# Altium footprint library CON-IDC.PcbLib: 62 footprints (part 4 of 4)
Each footprint in its own frame and in the unit in brackets; x right, y up, seen from the top. Pads: shape width x height; smd on the part's side, far side on the other; paste and mask are expansions set on the pad; w line width, h text height; cw(c..) or ccw(c..) is an arc to the next point about the centre after c.
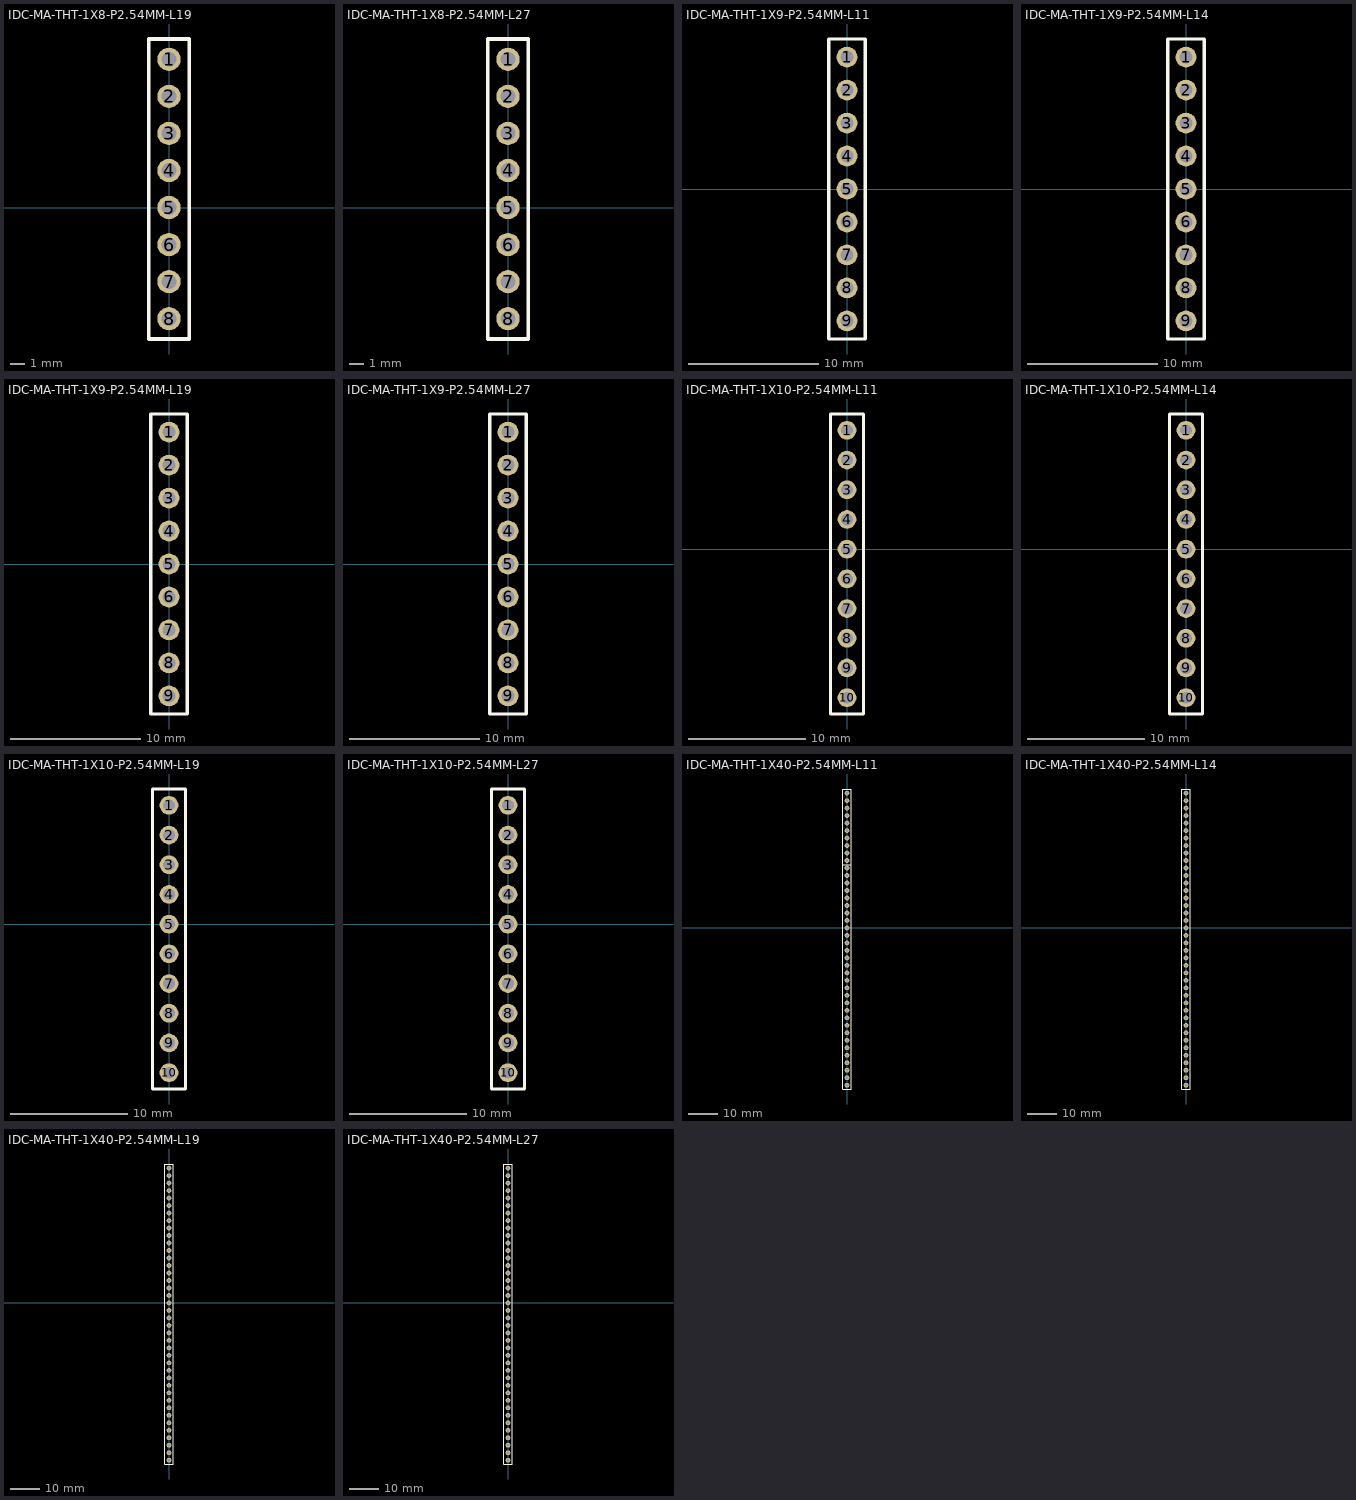
[diagram p3: the footprints below, top view; thin cyan lines are the x and y axes]

## IDC-MA-THT-1X8-P2.54MM-L19 [mm] "IDC-MA-THT-1X8-P2.54MM-L19"
pads (8):
  round 1.6 hole 1: 1(0,10.16) 2(0,7.62) 3(0,5.08) 4(0,2.54) 5(0,0) 6(0,-2.54) 7(0,-5.08) 8(0,-7.62)
Top Overlay:
  lines w0.254: -1.397,-9.017 1.397,-9.017 1.397,-0.682 1.397,11.557 -1.397,11.557 -1.397,-0.555 -1.397,-9.017
3D body "CON-PIN-L19.stp": height 16.96, standoff -2.54, extent -1.27,-8.89 1.27,-6.35
3D body "CON-PIN-L19.stp": height 16.96, standoff -2.54, extent -1.27,-6.35 1.27,-3.81
3D body "CON-PIN-L19.stp": height 16.96, standoff -2.54, extent -1.27,-3.81 1.27,-1.27
3D body "CON-PIN-L19.stp": height 16.96, standoff -2.54, extent -1.27,-1.27 1.27,1.27
3D body "CON-PIN-L19.stp": height 16.96, standoff -2.54, extent -1.27,1.27 1.27,3.81
3D body "CON-PIN-L19.stp": height 16.96, standoff -2.54, extent -1.27,3.81 1.27,6.35
3D body "CON-PIN-L19.stp": height 16.96, standoff -2.54, extent -1.27,6.35 1.27,8.89
3D body "CON-PIN-L19.stp": height 16.96, standoff -2.54, extent -1.27,8.89 1.27,11.43

## IDC-MA-THT-1X8-P2.54MM-L27 [mm] "IDC-MA-THT-1X8-P2.54MM-L27"
pads (8):
  round 1.6 hole 1: 1(0,10.16) 2(0,7.62) 3(0,5.08) 4(0,2.54) 5(0,0) 6(0,-2.54) 7(0,-5.08) 8(0,-7.62)
Top Overlay:
  lines w0.254: -1.397,-9.017 -1.397,-0.555 -1.397,11.557 1.397,11.557 1.397,-0.682 1.397,-9.017 -1.397,-9.017
3D body "CON-PIN-L27.stp": height 24.46, standoff -2.54, extent -1.27,-8.89 1.27,-6.35
3D body "CON-PIN-L27.stp": height 24.46, standoff -2.54, extent -1.27,-6.35 1.27,-3.81
3D body "CON-PIN-L27.stp": height 24.46, standoff -2.54, extent -1.27,-3.81 1.27,-1.27
3D body "CON-PIN-L27.stp": height 24.46, standoff -2.54, extent -1.27,-1.27 1.27,1.27
3D body "CON-PIN-L27.stp": height 24.46, standoff -2.54, extent -1.27,1.27 1.27,3.81
3D body "CON-PIN-L27.stp": height 24.46, standoff -2.54, extent -1.27,3.81 1.27,6.35
3D body "CON-PIN-L27.stp": height 24.46, standoff -2.54, extent -1.27,6.35 1.27,8.89
3D body "CON-PIN-L27.stp": height 24.46, standoff -2.54, extent -1.27,8.89 1.27,11.43

## IDC-MA-THT-1X9-P2.54MM-L11 [mm] "IDC-MA-THT-1X9-P2.54MM-L11"
pads (9):
  round 1.6 hole 1: 1(0,10.16) 2(0,7.62) 3(0,5.08) 4(0,2.54) 5(0,0) 6(0,-2.54) 7(0,-5.08) 8(0,-7.62) 9(0,-10.16)
Top Overlay:
  lines w0.254: -1.397,-11.557 1.397,-11.557 1.397,-0.682 1.397,11.557 -1.397,11.557 -1.397,-0.555 -1.397,-11.557
3D body "CON-PIN-CORTO.step": height 9.54, standoff -3, extent -1.25,8.91 1.25,11.41
3D body "CON-PIN-CORTO.step": height 9.54, standoff -3, extent -1.25,6.37 1.25,8.87
3D body "CON-PIN-CORTO.step": height 9.54, standoff -3, extent -1.25,3.83 1.25,6.33
3D body "CON-PIN-CORTO.step": height 9.54, standoff -3, extent -1.25,1.29 1.25,3.79
3D body "CON-PIN-CORTO.step": height 9.54, standoff -3, extent -1.25,-1.25 1.25,1.25
3D body "CON-PIN-CORTO.step": height 9.54, standoff -3, extent -1.25,-3.79 1.25,-1.29
3D body "CON-PIN-CORTO.step": height 9.54, standoff -3, extent -1.25,-6.33 1.25,-3.83
3D body "CON-PIN-CORTO.step": height 9.54, standoff -3, extent -1.25,-8.87 1.25,-6.37
3D body "CON-PIN-CORTO.step": height 9.54, standoff -3, extent -1.25,-11.41 1.25,-8.91

## IDC-MA-THT-1X9-P2.54MM-L14 [mm] "IDC-MA-THT-1X9-P2.54MM-L14"
pads (9):
  round 1.6 hole 1: 1(0,10.16) 2(0,7.62) 3(0,5.08) 4(0,2.54) 5(0,0) 6(0,-2.54) 7(0,-5.08) 8(0,-7.62) 9(0,-10.16)
Top Overlay:
  lines w0.254: -1.397,-11.557 -1.397,-0.555 -1.397,11.557 1.397,11.557 1.397,-0.682 1.397,-11.557 -1.397,-11.557
3D body "CON-PIN-L14.stp": height 11.46, standoff -2.54, extent -1.27,-11.43 1.27,-8.89
3D body "CON-PIN-L14.stp": height 11.46, standoff -2.54, extent -1.27,-8.89 1.27,-6.35
3D body "CON-PIN-L14.stp": height 11.46, standoff -2.54, extent -1.27,-6.35 1.27,-3.81
3D body "CON-PIN-L14.stp": height 11.46, standoff -2.54, extent -1.27,-3.81 1.27,-1.27
3D body "CON-PIN-L14.stp": height 11.46, standoff -2.54, extent -1.27,-1.27 1.27,1.27
3D body "CON-PIN-L14.stp": height 11.46, standoff -2.54, extent -1.27,1.27 1.27,3.81
3D body "CON-PIN-L14.stp": height 11.46, standoff -2.54, extent -1.27,3.81 1.27,6.35
3D body "CON-PIN-L14.stp": height 11.46, standoff -2.54, extent -1.27,6.35 1.27,8.89
3D body "CON-PIN-L14.stp": height 11.46, standoff -2.54, extent -1.27,8.89 1.27,11.43

## IDC-MA-THT-1X9-P2.54MM-L19 [mm] "IDC-MA-THT-1X9-P2.54MM-L19"
pads (9):
  round 1.6 hole 1: 1(0,10.16) 2(0,7.62) 3(0,5.08) 4(0,2.54) 5(0,0) 6(0,-2.54) 7(0,-5.08) 8(0,-7.62) 9(0,-10.16)
Top Overlay:
  lines w0.254: -1.397,-11.557 1.397,-11.557 1.397,-0.682 1.397,11.557 -1.397,11.557 -1.397,-0.555 -1.397,-11.557
3D body "CON-PIN-L19.stp": height 16.96, standoff -2.54, extent -1.27,-11.43 1.27,-8.89
3D body "CON-PIN-L19.stp": height 16.96, standoff -2.54, extent -1.27,-8.89 1.27,-6.35
3D body "CON-PIN-L19.stp": height 16.96, standoff -2.54, extent -1.27,-6.35 1.27,-3.81
3D body "CON-PIN-L19.stp": height 16.96, standoff -2.54, extent -1.27,-3.81 1.27,-1.27
3D body "CON-PIN-L19.stp": height 16.96, standoff -2.54, extent -1.27,-1.27 1.27,1.27
3D body "CON-PIN-L19.stp": height 16.96, standoff -2.54, extent -1.27,1.27 1.27,3.81
3D body "CON-PIN-L19.stp": height 16.96, standoff -2.54, extent -1.27,3.81 1.27,6.35
3D body "CON-PIN-L19.stp": height 16.96, standoff -2.54, extent -1.27,6.35 1.27,8.89
3D body "CON-PIN-L19.stp": height 16.96, standoff -2.54, extent -1.27,8.89 1.27,11.43

## IDC-MA-THT-1X9-P2.54MM-L27 [mm] "IDC-MA-THT-1X9-P2.54MM-L27"
pads (9):
  round 1.6 hole 1: 1(0,10.16) 2(0,7.62) 3(0,5.08) 4(0,2.54) 5(0,0) 6(0,-2.54) 7(0,-5.08) 8(0,-7.62) 9(0,-10.16)
Top Overlay:
  lines w0.254: -1.397,-11.557 -1.397,-0.555 -1.397,11.557 1.397,11.557 1.397,-0.682 1.397,-11.557 -1.397,-11.557
3D body "CON-PIN-L27.stp": height 24.46, standoff -2.54, extent -1.27,8.89 1.27,11.43
3D body "CON-PIN-L27.stp": height 24.46, standoff -2.54, extent -1.27,6.35 1.27,8.89
3D body "CON-PIN-L27.stp": height 24.46, standoff -2.54, extent -1.27,3.81 1.27,6.35
3D body "CON-PIN-L27.stp": height 24.46, standoff -2.54, extent -1.27,1.27 1.27,3.81
3D body "CON-PIN-L27.stp": height 24.46, standoff -2.54, extent -1.27,-1.27 1.27,1.27
3D body "CON-PIN-L27.stp": height 24.46, standoff -2.54, extent -1.27,-3.81 1.27,-1.27
3D body "CON-PIN-L27.stp": height 24.46, standoff -2.54, extent -1.27,-6.35 1.27,-3.81
3D body "CON-PIN-L27.stp": height 24.46, standoff -2.54, extent -1.27,-8.89 1.27,-6.35
3D body "CON-PIN-L27.stp": height 24.46, standoff -2.54, extent -1.27,-11.43 1.27,-8.89

## IDC-MA-THT-1X10-P2.54MM-L11 [mm] "IDC-MA-THT-1X10-P2.54MM-L11"
pads (10):
  round 1.6 hole 1: 1(0,10.16) 2(0,7.62) 3(0,5.08) 4(0,2.54) 5(0,0) 6(0,-2.54) 7(0,-5.08) 8(0,-7.62) 9(0,-10.16) 10(0,-12.7)
Top Overlay:
  lines w0.254: -1.397,-14.097 -1.397,-0.555 -1.397,11.557 1.397,11.557 1.397,-0.682 1.397,-14.097 -1.397,-14.097
3D body "CON-PIN-CORTO.step": height 9.54, standoff -3, extent -1.25,-13.95 1.25,-11.45
3D body "CON-PIN-CORTO.step": height 9.54, standoff -3, extent -1.25,-11.41 1.25,-8.91
3D body "CON-PIN-CORTO.step": height 9.54, standoff -3, extent -1.25,-8.87 1.25,-6.37
3D body "CON-PIN-CORTO.step": height 9.54, standoff -3, extent -1.25,-6.33 1.25,-3.83
3D body "CON-PIN-CORTO.step": height 9.54, standoff -3, extent -1.25,-3.79 1.25,-1.29
3D body "CON-PIN-CORTO.step": height 9.54, standoff -3, extent -1.25,-1.25 1.25,1.25
3D body "CON-PIN-CORTO.step": height 9.54, standoff -3, extent -1.25,1.29 1.25,3.79
3D body "CON-PIN-CORTO.step": height 9.54, standoff -3, extent -1.25,3.83 1.25,6.33
3D body "CON-PIN-CORTO.step": height 9.54, standoff -3, extent -1.25,6.37 1.25,8.87
3D body "CON-PIN-CORTO.step": height 9.54, standoff -3, extent -1.25,8.91 1.25,11.41

## IDC-MA-THT-1X10-P2.54MM-L14 [mm] "IDC-MA-THT-1X10-P2.54MM-L14"
pads (10):
  round 1.6 hole 1: 1(0,10.16) 2(0,7.62) 3(0,5.08) 4(0,2.54) 5(0,0) 6(0,-2.54) 7(0,-5.08) 8(0,-7.62) 9(0,-10.16) 10(0,-12.7)
Top Overlay:
  lines w0.254: -1.397,-14.097 1.397,-14.097 1.397,-0.682 1.397,11.557 -1.397,11.557 -1.397,-0.555 -1.397,-14.097
3D body "CON-PIN-L14.stp": height 11.46, standoff -2.54, extent -1.27,-13.97 1.27,-11.43
3D body "CON-PIN-L14.stp": height 11.46, standoff -2.54, extent -1.27,-11.43 1.27,-8.89
3D body "CON-PIN-L14.stp": height 11.46, standoff -2.54, extent -1.27,-8.89 1.27,-6.35
3D body "CON-PIN-L14.stp": height 11.46, standoff -2.54, extent -1.27,-6.35 1.27,-3.81
3D body "CON-PIN-L14.stp": height 11.46, standoff -2.54, extent -1.27,-3.81 1.27,-1.27
3D body "CON-PIN-L14.stp": height 11.46, standoff -2.54, extent -1.27,-1.27 1.27,1.27
3D body "CON-PIN-L14.stp": height 11.46, standoff -2.54, extent -1.27,1.27 1.27,3.81
3D body "CON-PIN-L14.stp": height 11.46, standoff -2.54, extent -1.27,3.81 1.27,6.35
3D body "CON-PIN-L14.stp": height 11.46, standoff -2.54, extent -1.27,6.35 1.27,8.89
3D body "CON-PIN-L14.stp": height 11.46, standoff -2.54, extent -1.27,8.89 1.27,11.43

## IDC-MA-THT-1X10-P2.54MM-L19 [mm] "IDC-MA-THT-1X10-P2.54MM-L19"
pads (10):
  round 1.6 hole 1: 1(0,10.16) 2(0,7.62) 3(0,5.08) 4(0,2.54) 5(0,0) 6(0,-2.54) 7(0,-5.08) 8(0,-7.62) 9(0,-10.16) 10(0,-12.7)
Top Overlay:
  lines w0.254: -1.397,-14.097 -1.397,-0.555 -1.397,11.557 1.397,11.557 1.397,-0.682 1.397,-14.097 -1.397,-14.097
3D body "CON-PIN-L19.stp": height 16.96, standoff -2.54, extent -1.27,-13.97 1.27,-11.43
3D body "CON-PIN-L19.stp": height 16.96, standoff -2.54, extent -1.27,-11.43 1.27,-8.89
3D body "CON-PIN-L19.stp": height 16.96, standoff -2.54, extent -1.27,-8.89 1.27,-6.35
3D body "CON-PIN-L19.stp": height 16.96, standoff -2.54, extent -1.27,-6.35 1.27,-3.81
3D body "CON-PIN-L19.stp": height 16.96, standoff -2.54, extent -1.27,-3.81 1.27,-1.27
3D body "CON-PIN-L19.stp": height 16.96, standoff -2.54, extent -1.27,-1.27 1.27,1.27
3D body "CON-PIN-L19.stp": height 16.96, standoff -2.54, extent -1.27,1.27 1.27,3.81
3D body "CON-PIN-L19.stp": height 16.96, standoff -2.54, extent -1.27,3.81 1.27,6.35
3D body "CON-PIN-L19.stp": height 16.96, standoff -2.54, extent -1.27,6.35 1.27,8.89
3D body "CON-PIN-L19.stp": height 16.96, standoff -2.54, extent -1.27,8.89 1.27,11.43

## IDC-MA-THT-1X10-P2.54MM-L27 [mm] "IDC-MA-THT-1X10-P2.54MM-L27"
pads (10):
  round 1.6 hole 1: 1(0,10.16) 2(0,7.62) 3(0,5.08) 4(0,2.54) 5(0,0) 6(0,-2.54) 7(0,-5.08) 8(0,-7.62) 9(0,-10.16) 10(0,-12.7)
Top Overlay:
  lines w0.254: -1.397,-14.097 -1.397,-0.555 -1.397,11.557 1.397,11.557 1.397,-0.682 1.397,-14.097 -1.397,-14.097
3D body "CON-PIN-L27.stp": height 24.46, standoff -2.54, extent -1.27,-13.97 1.27,-11.43
3D body "CON-PIN-L27.stp": height 24.46, standoff -2.54, extent -1.27,-11.43 1.27,-8.89
3D body "CON-PIN-L27.stp": height 24.46, standoff -2.54, extent -1.27,-8.89 1.27,-6.35
3D body "CON-PIN-L27.stp": height 24.46, standoff -2.54, extent -1.27,-6.35 1.27,-3.81
3D body "CON-PIN-L27.stp": height 24.46, standoff -2.54, extent -1.27,-3.81 1.27,-1.27
3D body "CON-PIN-L27.stp": height 24.46, standoff -2.54, extent -1.27,-1.27 1.27,1.27
3D body "CON-PIN-L27.stp": height 24.46, standoff -2.54, extent -1.27,1.27 1.27,3.81
3D body "CON-PIN-L27.stp": height 24.46, standoff -2.54, extent -1.27,3.81 1.27,6.35
3D body "CON-PIN-L27.stp": height 24.46, standoff -2.54, extent -1.27,6.35 1.27,8.89
3D body "CON-PIN-L27.stp": height 24.46, standoff -2.54, extent -1.27,8.89 1.27,11.43

## IDC-MA-THT-1X40-P2.54MM-L11 [mm] "IDC-MA-THT-1X40-P2.54MM-L11"
pads (40):
  round 1.6 hole 1: 1(0,45.72) 2(0,43.18) 3(0,40.64) 4(0,38.1) 5(0,35.56) 6(0,33.02) 7(0,30.48) 8(0,27.94) 9(0,25.4) 10(0,22.86) 11(0,20.32) 12(0,17.78) 13(0,15.24) 14(0,12.7) 15(0,10.16) 16(0,7.62) 17(0,5.08) 18(0,2.54) 19(0,0) 20(0,-2.54) 21(0,-5.08) 22(0,-7.62) 23(0,-10.16) 24(0,-12.7) 25(0,-15.24) 26(0,-17.78) 27(0,-20.32) 28(0,-22.86) 29(0,-25.4) 30(0,-27.94) 31(0,-30.48) 32(0,-33.02) 33(0,-35.56) 34(0,-38.1) 35(0,-40.64) 36(0,-43.18) 37(0,-45.72) 38(0,-48.26) 39(0,-50.8) 40(0,-53.34)
Top Overlay:
  lines w0: -1.397,21.463 1.397,21.463
  lines w0.254: -1.397,-47.117 -1.397,-33.575 -1.397,-21.463 ; -1.397,-44.323 -1.397,-54.61 1.397,-54.61 1.397,-44.323 ; -1.397,-24.257 -1.397,-10.715 -1.397,1.397 ; -1.397,-1.397 -1.397,10.842 -1.397,24.257 ; -1.397,21.463 -1.397,33.702 -1.397,47.117 ; 1.397,-47.117 1.397,-33.702 1.397,-21.463 ; 1.397,-24.257 1.397,-10.842 1.397,1.397 ; 1.397,-1.397 1.397,10.715 1.397,24.257 ; 1.397,21.463 1.397,33.575 1.397,47.117 ; -1.397,47.117 1.397,47.117 ; -1.397,47.117 1.397,47.117
3D body "CON-PIN-CORTO.step": height 9.54, standoff -3, extent -1.25,-24.11 1.25,-21.61
3D body "CON-PIN-CORTO.step": height 9.54, standoff -3, extent -1.25,-21.57 1.25,-19.07
3D body "CON-PIN-CORTO.step": height 9.54, standoff -3, extent -1.25,-19.03 1.25,-16.53
3D body "CON-PIN-CORTO.step": height 9.54, standoff -3, extent -1.25,-16.49 1.25,-13.99
3D body "CON-PIN-CORTO.step": height 9.54, standoff -3, extent -1.25,-13.95 1.25,-11.45
3D body "CON-PIN-CORTO.step": height 9.54, standoff -3, extent -1.25,-11.41 1.25,-8.91
3D body "CON-PIN-CORTO.step": height 9.54, standoff -3, extent -1.25,-8.87 1.25,-6.37
3D body "CON-PIN-CORTO.step": height 9.54, standoff -3, extent -1.25,-6.33 1.25,-3.83
3D body "CON-PIN-CORTO.step": height 9.54, standoff -3, extent -1.25,-3.79 1.25,-1.29
3D body "CON-PIN-CORTO.step": height 9.54, standoff -3, extent -1.25,-1.25 1.25,1.25
3D body "CON-PIN-CORTO.step": height 9.54, standoff -3, extent -1.25,1.29 1.25,3.79
3D body "CON-PIN-CORTO.step": height 9.54, standoff -3, extent -1.25,3.83 1.25,6.33
3D body "CON-PIN-CORTO.step": height 9.54, standoff -3, extent -1.25,6.37 1.25,8.87
3D body "CON-PIN-CORTO.step": height 9.54, standoff -3, extent -1.25,8.91 1.25,11.41
3D body "CON-PIN-CORTO.step": height 9.54, standoff -3, extent -1.25,11.45 1.25,13.95
3D body "CON-PIN-CORTO.step": height 9.54, standoff -3, extent -1.25,13.99 1.25,16.49
3D body "CON-PIN-CORTO.step": height 9.54, standoff -3, extent -1.25,16.53 1.25,19.03
3D body "CON-PIN-CORTO.step": height 9.54, standoff -3, extent -1.25,19.07 1.25,21.57
3D body "CON-PIN-CORTO.step": height 9.54, standoff -3, extent -1.25,21.61 1.25,24.11
3D body "CON-PIN-CORTO.step": height 9.54, standoff -3, extent -1.25,24.15 1.25,26.65
3D body "CON-PIN-CORTO.step": height 9.54, standoff -3, extent -1.25,26.69 1.25,29.19
3D body "CON-PIN-CORTO.step": height 9.54, standoff -3, extent -1.25,29.23 1.25,31.73
3D body "CON-PIN-CORTO.step": height 9.54, standoff -3, extent -1.25,31.77 1.25,34.27
3D body "CON-PIN-CORTO.step": height 9.54, standoff -3, extent -1.25,34.31 1.25,36.81
3D body "CON-PIN-CORTO.step": height 9.54, standoff -3, extent -1.25,36.85 1.25,39.35
3D body "CON-PIN-CORTO.step": height 9.54, standoff -3, extent -1.25,39.39 1.25,41.89
3D body "CON-PIN-CORTO.step": height 9.54, standoff -3, extent -1.25,41.93 1.25,44.43
3D body "CON-PIN-CORTO.step": height 9.54, standoff -3, extent -1.25,44.47 1.25,46.97
3D body "CON-PIN-CORTO.step": height 9.54, standoff -3, extent -1.25,-26.65 1.25,-24.15
3D body "CON-PIN-CORTO.step": height 9.54, standoff -3, extent -1.25,-29.19 1.25,-26.69
3D body "CON-PIN-CORTO.step": height 9.54, standoff -3, extent -1.25,-31.73 1.25,-29.23
3D body "CON-PIN-CORTO.step": height 9.54, standoff -3, extent -1.25,-34.27 1.25,-31.77
3D body "CON-PIN-CORTO.step": height 9.54, standoff -3, extent -1.25,-36.81 1.25,-34.31
3D body "CON-PIN-CORTO.step": height 9.54, standoff -3, extent -1.25,-39.35 1.25,-36.85
3D body "CON-PIN-CORTO.step": height 9.54, standoff -3, extent -1.25,-41.89 1.25,-39.39
3D body "CON-PIN-CORTO.step": height 9.54, standoff -3, extent -1.25,-44.43 1.25,-41.93
3D body "CON-PIN-CORTO.step": height 9.54, standoff -3, extent -1.25,-46.97 1.25,-44.47
3D body "CON-PIN-CORTO.step": height 9.54, standoff -3, extent -1.25,-49.51 1.25,-47.01
3D body "CON-PIN-CORTO.step": height 9.54, standoff -3, extent -1.25,-52.05 1.25,-49.55
3D body "CON-PIN-CORTO.step": height 9.54, standoff -3, extent -1.25,-54.59 1.25,-52.09

## IDC-MA-THT-1X40-P2.54MM-L14 [mm] "IDC-MA-THT-1X40-P2.54MM-L14"
pads (40):
  round 1.6 hole 1: 1(0,45.72) 2(0,43.18) 3(0,40.64) 4(0,38.1) 5(0,35.56) 6(0,33.02) 7(0,30.48) 8(0,27.94) 9(0,25.4) 10(0,22.86) 11(0,20.32) 12(0,17.78) 13(0,15.24) 14(0,12.7) 15(0,10.16) 16(0,7.62) 17(0,5.08) 18(0,2.54) 19(0,0) 20(0,-2.54) 21(0,-5.08) 22(0,-7.62) 23(0,-10.16) 24(0,-12.7) 25(0,-15.24) 26(0,-17.78) 27(0,-20.32) 28(0,-22.86) 29(0,-25.4) 30(0,-27.94) 31(0,-30.48) 32(0,-33.02) 33(0,-35.56) 34(0,-38.1) 35(0,-40.64) 36(0,-43.18) 37(0,-45.72) 38(0,-48.26) 39(0,-50.8) 40(0,-53.34)
Top Overlay:
  lines w0.254: -1.397,-47.117 -1.397,-33.575 -1.397,-21.463 ; -1.397,-44.323 -1.397,-54.61 1.397,-54.61 1.397,-44.323 ; -1.397,-24.257 -1.397,-10.715 -1.397,1.397 ; -1.397,-1.397 -1.397,10.842 -1.397,24.257 ; -1.397,21.463 -1.397,33.702 -1.397,47.117 ; 1.397,-47.117 1.397,-33.702 1.397,-21.463 ; 1.397,-24.257 1.397,-10.842 1.397,1.397 ; 1.397,-1.397 1.397,10.715 1.397,24.257 ; 1.397,21.463 1.397,33.575 1.397,47.117 ; -1.397,47.117 1.397,47.117 ; -1.397,47.117 1.397,47.117
3D body "CON-PIN-L14.stp": height 11.46, standoff -2.54, extent -1.27,-54.61 1.27,-52.07
3D body "CON-PIN-L14.stp": height 11.46, standoff -2.54, extent -1.27,-52.07 1.27,-49.53
3D body "CON-PIN-L14.stp": height 11.46, standoff -2.54, extent -1.27,-49.53 1.27,-46.99
3D body "CON-PIN-L14.stp": height 11.46, standoff -2.54, extent -1.27,-46.99 1.27,-44.45
3D body "CON-PIN-L14.stp": height 11.46, standoff -2.54, extent -1.27,-44.45 1.27,-41.91
3D body "CON-PIN-L14.stp": height 11.46, standoff -2.54, extent -1.27,-41.91 1.27,-39.37
3D body "CON-PIN-L14.stp": height 11.46, standoff -2.54, extent -1.27,-39.37 1.27,-36.83
3D body "CON-PIN-L14.stp": height 11.46, standoff -2.54, extent -1.27,-36.83 1.27,-34.29
3D body "CON-PIN-L14.stp": height 11.46, standoff -2.54, extent -1.27,-34.29 1.27,-31.75
3D body "CON-PIN-L14.stp": height 11.46, standoff -2.54, extent -1.27,-31.75 1.27,-29.21
3D body "CON-PIN-L14.stp": height 11.46, standoff -2.54, extent -1.27,-29.21 1.27,-26.67
3D body "CON-PIN-L14.stp": height 11.46, standoff -2.54, extent -1.27,-26.67 1.27,-24.13
3D body "CON-PIN-L14.stp": height 11.46, standoff -2.54, extent -1.27,-24.13 1.27,-21.59
3D body "CON-PIN-L14.stp": height 11.46, standoff -2.54, extent -1.27,-21.59 1.27,-19.05
3D body "CON-PIN-L14.stp": height 11.46, standoff -2.54, extent -1.27,-19.05 1.27,-16.51
3D body "CON-PIN-L14.stp": height 11.46, standoff -2.54, extent -1.27,-16.51 1.27,-13.97
3D body "CON-PIN-L14.stp": height 11.46, standoff -2.54, extent -1.27,-13.97 1.27,-11.43
3D body "CON-PIN-L14.stp": height 11.46, standoff -2.54, extent -1.27,-11.43 1.27,-8.89
3D body "CON-PIN-L14.stp": height 11.46, standoff -2.54, extent -1.27,-8.89 1.27,-6.35
3D body "CON-PIN-L14.stp": height 11.46, standoff -2.54, extent -1.27,-6.35 1.27,-3.81
3D body "CON-PIN-L14.stp": height 11.46, standoff -2.54, extent -1.27,-3.81 1.27,-1.27
3D body "CON-PIN-L14.stp": height 11.46, standoff -2.54, extent -1.27,-1.27 1.27,1.27
3D body "CON-PIN-L14.stp": height 11.46, standoff -2.54, extent -1.27,1.27 1.27,3.81
3D body "CON-PIN-L14.stp": height 11.46, standoff -2.54, extent -1.27,3.81 1.27,6.35
3D body "CON-PIN-L14.stp": height 11.46, standoff -2.54, extent -1.27,6.35 1.27,8.89
3D body "CON-PIN-L14.stp": height 11.46, standoff -2.54, extent -1.27,8.89 1.27,11.43
3D body "CON-PIN-L14.stp": height 11.46, standoff -2.54, extent -1.27,11.43 1.27,13.97
3D body "CON-PIN-L14.stp": height 11.46, standoff -2.54, extent -1.27,13.97 1.27,16.51
3D body "CON-PIN-L14.stp": height 11.46, standoff -2.54, extent -1.27,16.51 1.27,19.05
3D body "CON-PIN-L14.stp": height 11.46, standoff -2.54, extent -1.27,19.05 1.27,21.59
3D body "CON-PIN-L14.stp": height 11.46, standoff -2.54, extent -1.27,21.59 1.27,24.13
3D body "CON-PIN-L14.stp": height 11.46, standoff -2.54, extent -1.27,24.13 1.27,26.67
3D body "CON-PIN-L14.stp": height 11.46, standoff -2.54, extent -1.27,26.67 1.27,29.21
3D body "CON-PIN-L14.stp": height 11.46, standoff -2.54, extent -1.27,29.21 1.27,31.75
3D body "CON-PIN-L14.stp": height 11.46, standoff -2.54, extent -1.27,31.75 1.27,34.29
3D body "CON-PIN-L14.stp": height 11.46, standoff -2.54, extent -1.27,34.29 1.27,36.83
3D body "CON-PIN-L14.stp": height 11.46, standoff -2.54, extent -1.27,36.83 1.27,39.37
3D body "CON-PIN-L14.stp": height 11.46, standoff -2.54, extent -1.27,39.37 1.27,41.91
3D body "CON-PIN-L14.stp": height 11.46, standoff -2.54, extent -1.27,41.91 1.27,44.45
3D body "CON-PIN-L14.stp": height 11.46, standoff -2.54, extent -1.27,44.45 1.27,46.99

## IDC-MA-THT-1X40-P2.54MM-L19 [mm] "IDC-MA-THT-1X40-P2.54MM-L19"
pads (40):
  round 1.6 hole 1: 1(0,45.72) 2(0,43.18) 3(0,40.64) 4(0,38.1) 5(0,35.56) 6(0,33.02) 7(0,30.48) 8(0,27.94) 9(0,25.4) 10(0,22.86) 11(0,20.32) 12(0,17.78) 13(0,15.24) 14(0,12.7) 15(0,10.16) 16(0,7.62) 17(0,5.08) 18(0,2.54) 19(0,0) 20(0,-2.54) 21(0,-5.08) 22(0,-7.62) 23(0,-10.16) 24(0,-12.7) 25(0,-15.24) 26(0,-17.78) 27(0,-20.32) 28(0,-22.86) 29(0,-25.4) 30(0,-27.94) 31(0,-30.48) 32(0,-33.02) 33(0,-35.56) 34(0,-38.1) 35(0,-40.64) 36(0,-43.18) 37(0,-45.72) 38(0,-48.26) 39(0,-50.8) 40(0,-53.34)
Top Overlay:
  lines w0.254: -1.397,-47.117 -1.397,-33.575 -1.397,-21.463 ; -1.397,-44.323 -1.397,-54.61 1.397,-54.61 1.397,-44.323 ; -1.397,-24.257 -1.397,-10.715 -1.397,1.397 ; -1.397,-1.397 -1.397,10.842 -1.397,24.257 ; -1.397,21.463 -1.397,33.702 -1.397,47.117 ; 1.397,-47.117 1.397,-33.702 1.397,-21.463 ; 1.397,-24.257 1.397,-10.842 1.397,1.397 ; 1.397,-1.397 1.397,10.715 1.397,24.257 ; 1.397,21.463 1.397,33.575 1.397,47.117 ; -1.397,47.117 1.397,47.117 ; -1.397,47.117 1.397,47.117
3D body "CON-PIN-L19.stp": height 16.96, standoff -2.54, extent -1.27,-54.61 1.27,-52.07
3D body "CON-PIN-L19.stp": height 16.96, standoff -2.54, extent -1.27,-52.07 1.27,-49.53
3D body "CON-PIN-L19.stp": height 16.96, standoff -2.54, extent -1.27,-49.53 1.27,-46.99
3D body "CON-PIN-L19.stp": height 16.96, standoff -2.54, extent -1.27,-46.99 1.27,-44.45
3D body "CON-PIN-L19.stp": height 16.96, standoff -2.54, extent -1.27,-44.45 1.27,-41.91
3D body "CON-PIN-L19.stp": height 16.96, standoff -2.54, extent -1.27,-41.91 1.27,-39.37
3D body "CON-PIN-L19.stp": height 16.96, standoff -2.54, extent -1.27,-39.37 1.27,-36.83
3D body "CON-PIN-L19.stp": height 16.96, standoff -2.54, extent -1.27,-36.83 1.27,-34.29
3D body "CON-PIN-L19.stp": height 16.96, standoff -2.54, extent -1.27,-34.29 1.27,-31.75
3D body "CON-PIN-L19.stp": height 16.96, standoff -2.54, extent -1.27,-31.75 1.27,-29.21
3D body "CON-PIN-L19.stp": height 16.96, standoff -2.54, extent -1.27,-29.21 1.27,-26.67
3D body "CON-PIN-L19.stp": height 16.96, standoff -2.54, extent -1.27,-26.67 1.27,-24.13
3D body "CON-PIN-L19.stp": height 16.96, standoff -2.54, extent -1.27,-24.13 1.27,-21.59
3D body "CON-PIN-L19.stp": height 16.96, standoff -2.54, extent -1.27,-21.59 1.27,-19.05
3D body "CON-PIN-L19.stp": height 16.96, standoff -2.54, extent -1.27,-19.05 1.27,-16.51
3D body "CON-PIN-L19.stp": height 16.96, standoff -2.54, extent -1.27,-16.51 1.27,-13.97
3D body "CON-PIN-L19.stp": height 16.96, standoff -2.54, extent -1.27,-13.97 1.27,-11.43
3D body "CON-PIN-L19.stp": height 16.96, standoff -2.54, extent -1.27,-11.43 1.27,-8.89
3D body "CON-PIN-L19.stp": height 16.96, standoff -2.54, extent -1.27,-8.89 1.27,-6.35
3D body "CON-PIN-L19.stp": height 16.96, standoff -2.54, extent -1.27,-6.35 1.27,-3.81
3D body "CON-PIN-L19.stp": height 16.96, standoff -2.54, extent -1.27,-3.81 1.27,-1.27
3D body "CON-PIN-L19.stp": height 16.96, standoff -2.54, extent -1.27,-1.27 1.27,1.27
3D body "CON-PIN-L19.stp": height 16.96, standoff -2.54, extent -1.27,1.27 1.27,3.81
3D body "CON-PIN-L19.stp": height 16.96, standoff -2.54, extent -1.27,3.81 1.27,6.35
3D body "CON-PIN-L19.stp": height 16.96, standoff -2.54, extent -1.27,6.35 1.27,8.89
3D body "CON-PIN-L19.stp": height 16.96, standoff -2.54, extent -1.27,8.89 1.27,11.43
3D body "CON-PIN-L19.stp": height 16.96, standoff -2.54, extent -1.27,11.43 1.27,13.97
3D body "CON-PIN-L19.stp": height 16.96, standoff -2.54, extent -1.27,13.97 1.27,16.51
3D body "CON-PIN-L19.stp": height 16.96, standoff -2.54, extent -1.27,16.51 1.27,19.05
3D body "CON-PIN-L19.stp": height 16.96, standoff -2.54, extent -1.27,19.05 1.27,21.59
3D body "CON-PIN-L19.stp": height 16.96, standoff -2.54, extent -1.27,21.59 1.27,24.13
3D body "CON-PIN-L19.stp": height 16.96, standoff -2.54, extent -1.27,24.13 1.27,26.67
3D body "CON-PIN-L19.stp": height 16.96, standoff -2.54, extent -1.27,26.67 1.27,29.21
3D body "CON-PIN-L19.stp": height 16.96, standoff -2.54, extent -1.27,29.21 1.27,31.75
3D body "CON-PIN-L19.stp": height 16.96, standoff -2.54, extent -1.27,31.75 1.27,34.29
3D body "CON-PIN-L19.stp": height 16.96, standoff -2.54, extent -1.27,34.29 1.27,36.83
3D body "CON-PIN-L19.stp": height 16.96, standoff -2.54, extent -1.27,36.83 1.27,39.37
3D body "CON-PIN-L19.stp": height 16.96, standoff -2.54, extent -1.27,39.37 1.27,41.91
3D body "CON-PIN-L19.stp": height 16.96, standoff -2.54, extent -1.27,41.91 1.27,44.45
3D body "CON-PIN-L19.stp": height 16.96, standoff -2.54, extent -1.27,44.45 1.27,46.99

## IDC-MA-THT-1X40-P2.54MM-L27 [mm] "IDC-MA-THT-1X40-P2.54MM-L27"
pads (40):
  round 1.6 hole 1: 1(0,45.72) 2(0,43.18) 3(0,40.64) 4(0,38.1) 5(0,35.56) 6(0,33.02) 7(0,30.48) 8(0,27.94) 9(0,25.4) 10(0,22.86) 11(0,20.32) 12(0,17.78) 13(0,15.24) 14(0,12.7) 15(0,10.16) 16(0,7.62) 17(0,5.08) 18(0,2.54) 19(0,0) 20(0,-2.54) 21(0,-5.08) 22(0,-7.62) 23(0,-10.16) 24(0,-12.7) 25(0,-15.24) 26(0,-17.78) 27(0,-20.32) 28(0,-22.86) 29(0,-25.4) 30(0,-27.94) 31(0,-30.48) 32(0,-33.02) 33(0,-35.56) 34(0,-38.1) 35(0,-40.64) 36(0,-43.18) 37(0,-45.72) 38(0,-48.26) 39(0,-50.8) 40(0,-53.34)
Top Overlay:
  lines w0.254: -1.397,-47.117 -1.397,-33.575 -1.397,-21.463 ; -1.397,-44.323 -1.397,-54.61 1.397,-54.61 1.397,-44.323 ; -1.397,-24.257 -1.397,-10.715 -1.397,1.397 ; -1.397,-1.397 -1.397,10.842 -1.397,24.257 ; -1.397,21.463 -1.397,33.702 -1.397,47.117 ; 1.397,-47.117 1.397,-33.702 1.397,-21.463 ; 1.397,-24.257 1.397,-10.842 1.397,1.397 ; 1.397,-1.397 1.397,10.715 1.397,24.257 ; 1.397,21.463 1.397,33.575 1.397,47.117 ; -1.397,47.117 1.397,47.117 ; -1.397,47.117 1.397,47.117
3D body "CON-PIN-L27.stp": height 24.46, standoff -2.54, extent -1.27,41.91 1.27,44.45
3D body "CON-PIN-L27.stp": height 24.46, standoff -2.54, extent -1.27,44.45 1.27,46.99
3D body "CON-PIN-L27.stp": height 24.46, standoff -2.54, extent -1.27,39.37 1.27,41.91
3D body "CON-PIN-L27.stp": height 24.46, standoff -2.54, extent -1.27,36.83 1.27,39.37
3D body "CON-PIN-L27.stp": height 24.46, standoff -2.54, extent -1.27,34.29 1.27,36.83
3D body "CON-PIN-L27.stp": height 24.46, standoff -2.54, extent -1.27,31.75 1.27,34.29
3D body "CON-PIN-L27.stp": height 24.46, standoff -2.54, extent -1.27,29.21 1.27,31.75
3D body "CON-PIN-L27.stp": height 24.46, standoff -2.54, extent -1.27,26.67 1.27,29.21
3D body "CON-PIN-L27.stp": height 24.46, standoff -2.54, extent -1.27,24.13 1.27,26.67
3D body "CON-PIN-L27.stp": height 24.46, standoff -2.54, extent -1.27,21.59 1.27,24.13
3D body "CON-PIN-L27.stp": height 24.46, standoff -2.54, extent -1.27,19.05 1.27,21.59
3D body "CON-PIN-L27.stp": height 24.46, standoff -2.54, extent -1.27,16.51 1.27,19.05
3D body "CON-PIN-L27.stp": height 24.46, standoff -2.54, extent -1.27,13.97 1.27,16.51
3D body "CON-PIN-L27.stp": height 24.46, standoff -2.54, extent -1.27,11.43 1.27,13.97
3D body "CON-PIN-L27.stp": height 24.46, standoff -2.54, extent -1.27,8.89 1.27,11.43
3D body "CON-PIN-L27.stp": height 24.46, standoff -2.54, extent -1.27,6.35 1.27,8.89
3D body "CON-PIN-L27.stp": height 24.46, standoff -2.54, extent -1.27,3.81 1.27,6.35
3D body "CON-PIN-L27.stp": height 24.46, standoff -2.54, extent -1.27,1.27 1.27,3.81
3D body "CON-PIN-L27.stp": height 24.46, standoff -2.54, extent -1.27,-1.27 1.27,1.27
3D body "CON-PIN-L27.stp": height 24.46, standoff -2.54, extent -1.27,-3.81 1.27,-1.27
3D body "CON-PIN-L27.stp": height 24.46, standoff -2.54, extent -1.27,-6.35 1.27,-3.81
3D body "CON-PIN-L27.stp": height 24.46, standoff -2.54, extent -1.27,-8.89 1.27,-6.35
3D body "CON-PIN-L27.stp": height 24.46, standoff -2.54, extent -1.27,-11.43 1.27,-8.89
3D body "CON-PIN-L27.stp": height 24.46, standoff -2.54, extent -1.27,-13.97 1.27,-11.43
3D body "CON-PIN-L27.stp": height 24.46, standoff -2.54, extent -1.27,-16.51 1.27,-13.97
3D body "CON-PIN-L27.stp": height 24.46, standoff -2.54, extent -1.27,-19.05 1.27,-16.51
3D body "CON-PIN-L27.stp": height 24.46, standoff -2.54, extent -1.27,-21.59 1.27,-19.05
3D body "CON-PIN-L27.stp": height 24.46, standoff -2.54, extent -1.27,-24.13 1.27,-21.59
3D body "CON-PIN-L27.stp": height 24.46, standoff -2.54, extent -1.27,-26.67 1.27,-24.13
3D body "CON-PIN-L27.stp": height 24.46, standoff -2.54, extent -1.27,-29.21 1.27,-26.67
3D body "CON-PIN-L27.stp": height 24.46, standoff -2.54, extent -1.27,-31.75 1.27,-29.21
3D body "CON-PIN-L27.stp": height 24.46, standoff -2.54, extent -1.27,-34.29 1.27,-31.75
3D body "CON-PIN-L27.stp": height 24.46, standoff -2.54, extent -1.27,-36.83 1.27,-34.29
3D body "CON-PIN-L27.stp": height 24.46, standoff -2.54, extent -1.27,-39.37 1.27,-36.83
3D body "CON-PIN-L27.stp": height 24.46, standoff -2.54, extent -1.27,-41.91 1.27,-39.37
3D body "CON-PIN-L27.stp": height 24.46, standoff -2.54, extent -1.27,-44.45 1.27,-41.91
3D body "CON-PIN-L27.stp": height 24.46, standoff -2.54, extent -1.27,-46.99 1.27,-44.45
3D body "CON-PIN-L27.stp": height 24.46, standoff -2.54, extent -1.27,-49.53 1.27,-46.99
3D body "CON-PIN-L27.stp": height 24.46, standoff -2.54, extent -1.27,-52.07 1.27,-49.53
3D body "CON-PIN-L27.stp": height 24.46, standoff -2.54, extent -1.27,-54.61 1.27,-52.07